# EAGLE library part FTSH-105-01-F-DV-007 (library con-FTSH)
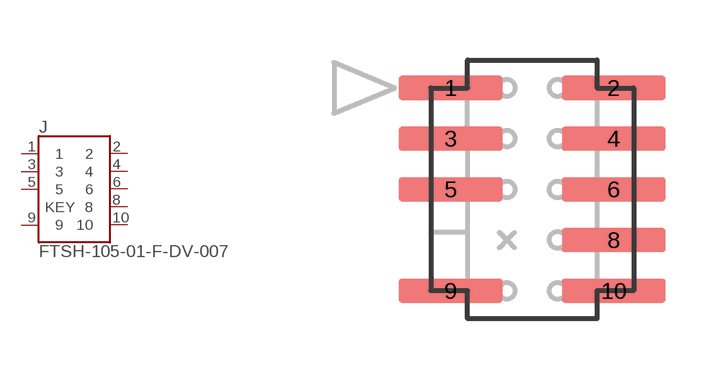
[diagram p0: symbol with the pads of FTSH-105-01-F-DV-007-K-P-TR; footprint FTSH-105-01-F-DV-007-K-P-TR]

Designator prefix J

## FTSH-105-01-F-DV-007 (MF: SAMTEC; MPN: FTSH-105-01-F-DV-007-K-P-TR)  [FTSH-105-01-F-DV-007-K-P-TR]
1  1  pas
2  2  pas
3  3  pas
4  4  pas
5  5  pas
6  6  pas
8  8  pas
9  9  pas
10  10  pas

## Footprint FTSH-105-01-F-DV-007-K-P-TR (pad centres in mm)
smd 2.6 x 0.6: 1 -2.04,2.54; 2 2.04,2.54; 3 -2.04,1.27; 4 2.04,1.27; 5 -2.04,0; 6 2.04,0; 8 2.04,-1.27; 9 -2.04,-2.54; 10 2.04,-2.54